# EAGLE library part AD8544A (library 1my_components)
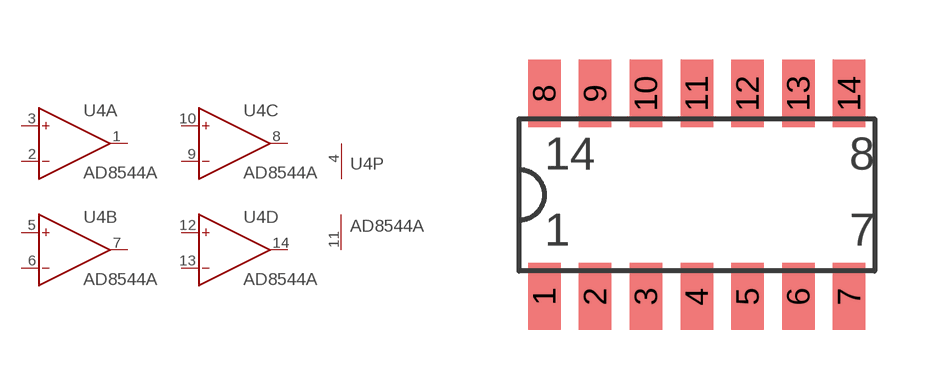
[diagram p1: symbol with the pads of SOIC-14; footprint SOIC-14]

Designator prefix U4; gates A=OP B=OP C=OP D=OP P=PWR+-

## AD8544ARZ  [SOIC-14]
1  A:OUT  out
2  A:IN-  in
3  A:IN+  in
4  P:V+  pwr
5  B:IN+  in
6  B:IN-  in
7  B:OUT  out
8  C:OUT  out
9  C:IN-  in
10  C:IN+  in
11  P:V-  pwr
12  D:IN+  in
13  D:IN-  in
14  D:OUT  out

## Footprint SOIC-14 (pad centres in mm)
smd 0.813 x 1.676: 1 -3.81,-2.54; 2 -2.54,-2.54; 3 -1.27,-2.54; 4 0,-2.54; 5 1.27,-2.54; 6 2.54,-2.54; 7 3.81,-2.54; 8 -3.81,2.54; 9 -2.54,2.54; 10 -1.27,2.54; 11 0,2.54; 12 1.27,2.54; 13 2.54,2.54; 14 3.81,2.54